# Altium schematic symbol library Schlib1.SchLib: 5 symbols
Pins are listed as number, name and electrical type; pins without a type are passive.

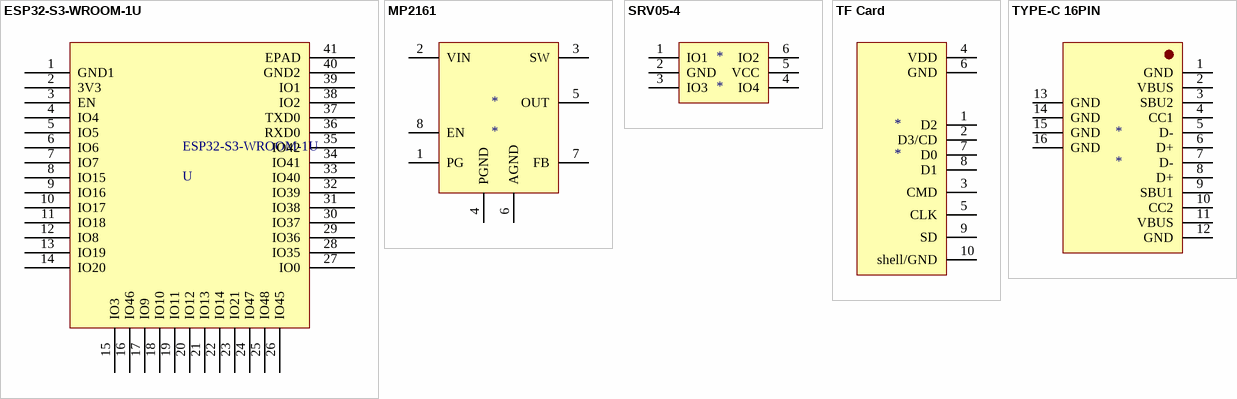
[diagram p0: symbols ESP32-S3-WROOM-1U to TYPE-C 16PIN]

## ESP32-S3-WROOM-1U
designator ESP32-S3-WROOM-1U, comment U
pins: 1 GND1, 2 3V3, 3 EN, 4 IO4, 5 IO5, 6 IO6, 7 IO7, 8 IO15, 9 IO16, 10 IO17, 11 IO18, 12 IO8, 13 IO19, 14 IO20, 15 IO3, 16 IO46, 17 IO9, 18 IO10, 19 IO11, 20 IO12, 21 IO13, 22 IO14, 23 IO21, 24 IO47, 25 IO48, 26 IO45, 27 IO0, 28 IO35, 29 IO36, 30 IO37, 31 IO38, 32 IO39, 33 IO40, 34 IO41, 35 IO42, 36 RXD0, 37 TXD0, 38 IO2, 39 IO1, 40 GND2, 41 EPAD

## MP2161
designator *
pins: 1 PG, 2 VIN, 3 SW, 4 PGND, 5 OUT, 6 AGND, 7 FB, 8 EN

## SRV05-4
designator *
pins: 1 IO1, 2 GND, 3 IO3, 4 IO4, 5 VCC, 6 IO2

## TF Card
designator *
pins: 1 D2, 2 D3/CD, 3 CMD, 4 VDD, 5 CLK, 6 GND, 7 D0, 8 D1, 9 SD, 10 shell/GND

## TYPE-C 16PIN
designator *
pins: 1 GND, 2 VBUS, 3 SBU2, 4 CC1, 5 D-, 6 D+, 7 D-, 8 D+, 9 SBU1, 10 CC2, 11 VBUS, 12 GND, 13 GND, 14 GND, 15 GND, 16 GND